# Altium footprint library TPS3702_Breakout.PcbLib: 3 footprints
Each footprint in its own frame and in the unit in brackets; x right, y up, seen from the top. Pads: shape width x height; smd on the part's side, far side on the other; paste and mask are expansions set on the pad; w line width, h text height; cw(c..) or ccw(c..) is an arc to the next point about the centre after c.
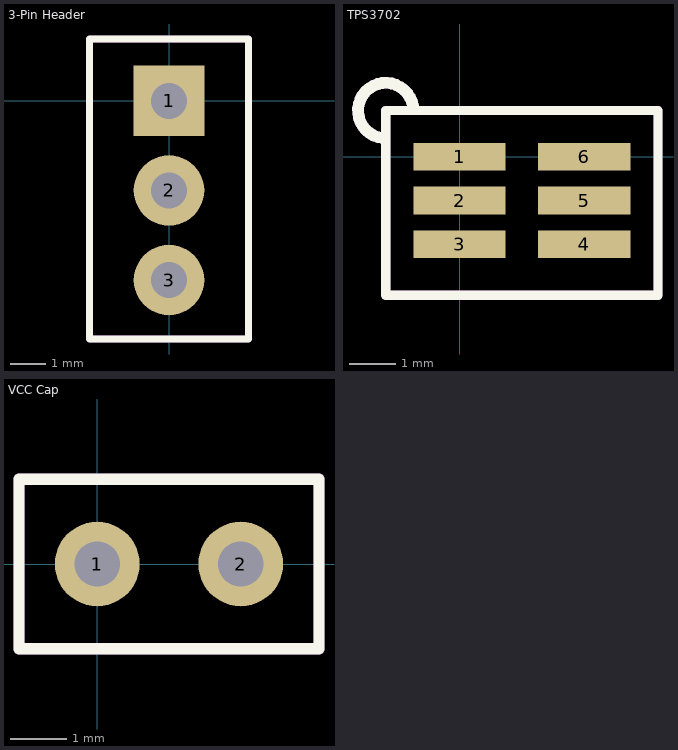
[diagram p0: the footprints below, top view; thin cyan lines are the x and y axes]

## 3-Pin Header [mm]
pads (3):
  rect 2x2 hole 1.02: 1(0,0)
  round 2 hole 1.02: 2(0,-2.54) 3(0,-5.08)
Top Overlay:
  lines w0.2: -2.25,-6.75 -2.25,1.75 2.25,1.75 2.25,-6.75 -2.25,-6.75
Mechanical 1:
  lines w0.2: -2.25,-6.75 -2.25,1.75 2.25,1.75 2.25,-6.75 -2.25,-6.75
  text "'.Designator'" at -1.9,0.35 h0.75
3D body "3PinHeader.STEP": height 5.35, standoff -5.83, extent -1.169,-6.147 1.168,1.067

## TPS3702 [mm]
pads (6):
  rect 2x0.6 smd: 1(0,0) 2(0,-0.95) 3(0,-1.9) 4(2.7,-1.9) 5(2.7,-0.95) 6(2.7,0)
Top Overlay:
  lines w0.2: -1.6,-3 -1.6,1 4.3,1 4.3,-3 -1.6,-3
  lines w0.254: -1.654,0.402 cw(c-1.6,1) -1.006,1.085
Mechanical 1:
  lines w0.2: -1.6,-3 -1.6,1 4.3,1 4.3,-3 -1.6,-3
  lines w0.254: -1.654,0.402 cw(c-1.6,1) -1.006,1.085
  text "'.Designator'" at -1.1,-0.25 h0.75
3D body "TPS3702CX33DDCT.STEP": height 1.01, standoff -0.09, extent -0.1,-2.425 2.7,0.475

## VCC Cap [mm]
pads (2):
  round 1.5 hole 0.8: 1(0,0) 2(2.54,0)
Top Overlay:
  lines w0.2: -1.385,-1.5 3.925,-1.5 3.925,0 3.925,1.5 -1.385,1.5 -1.385,-1.5
Mechanical 1:
  lines w0.2: -1.385,-1.5 3.925,-1.5 3.925,0 3.925,1.5 -1.385,1.5 -1.385,-1.5
  text "'.Designator'" at -1.2,-1.033 h0.5
3D body "C322C104K5R5TA7317.step": height 4.82, standoff -19.78, extent -1.545,-1.5 4.045,1.685